# Altium schematic symbol library WS2812.SchLib: 1 symbol
Pins are listed as number, name and electrical type; pins without a type are passive.

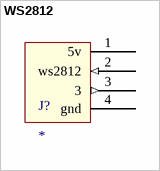
[diagram p0: symbol WS2812]

## WS2812
designator J?
footprint 4pinpwd
pins: 1 5v (power), 2 ws2812 (in), 3 (out), 4 gnd (power)